# EAGLE library part AD7706BR (library ArdDisp)
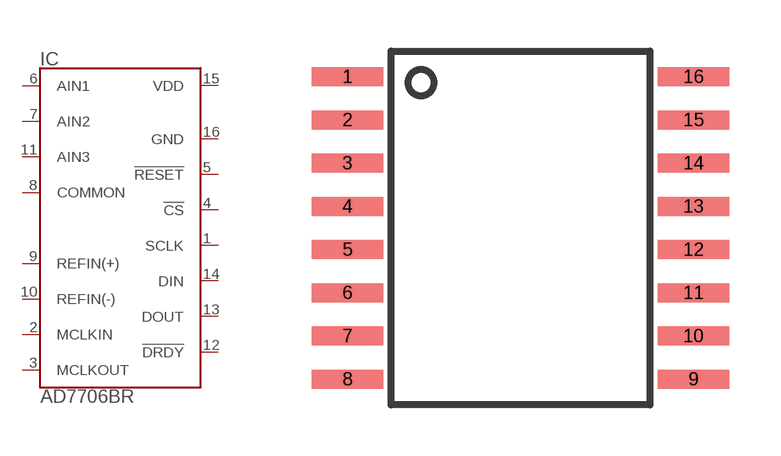
[diagram p20: symbol with the pads of SO16W; footprint SO16W]

Designator prefix IC

## AD7706BR-SO16  [SO16W]
1  SCLK  in
2  MCLKIN  in
3  MCLKOUT  out
4  !CS  in
5  !RESET  in
6  AIN1  in
7  AIN2  in
8  COMMON  in
9  REFIN(+)
10  REFIN(-)
11  AIN3  in
12  !DRDY  out
13  DOUT  out
14  DIN  in
15  VDD  sup
16  GND  sup

## Footprint SO16W (pad centres in mm)
Pady jsou v mil/12.5
smd 2.108 x 0.559: 1 -5.08,4.445; 2 -5.08,3.175; 3 -5.08,1.905; 4 -5.08,0.635; 5 -5.08,-0.635; 6 -5.08,-1.905; 7 -5.08,-3.175; 8 -5.08,-4.445; 9 5.08,-4.445; 10 5.08,-3.175; 11 5.08,-1.905; 12 5.08,-0.635; 13 5.08,0.635; 14 5.08,1.905; 15 5.08,3.175; 16 5.08,4.445